# Altium footprint library rcl.PCBLIB: 487 footprints (part 24 of 31)
Each footprint in its own frame and in the unit in brackets; x right, y up, seen from the top. Pads: shape width x height; smd on the part's side, far side on the other; paste and mask are expansions set on the pad; w line width, h text height; cw(c..) or ccw(c..) is an arc to the next point about the centre after c.
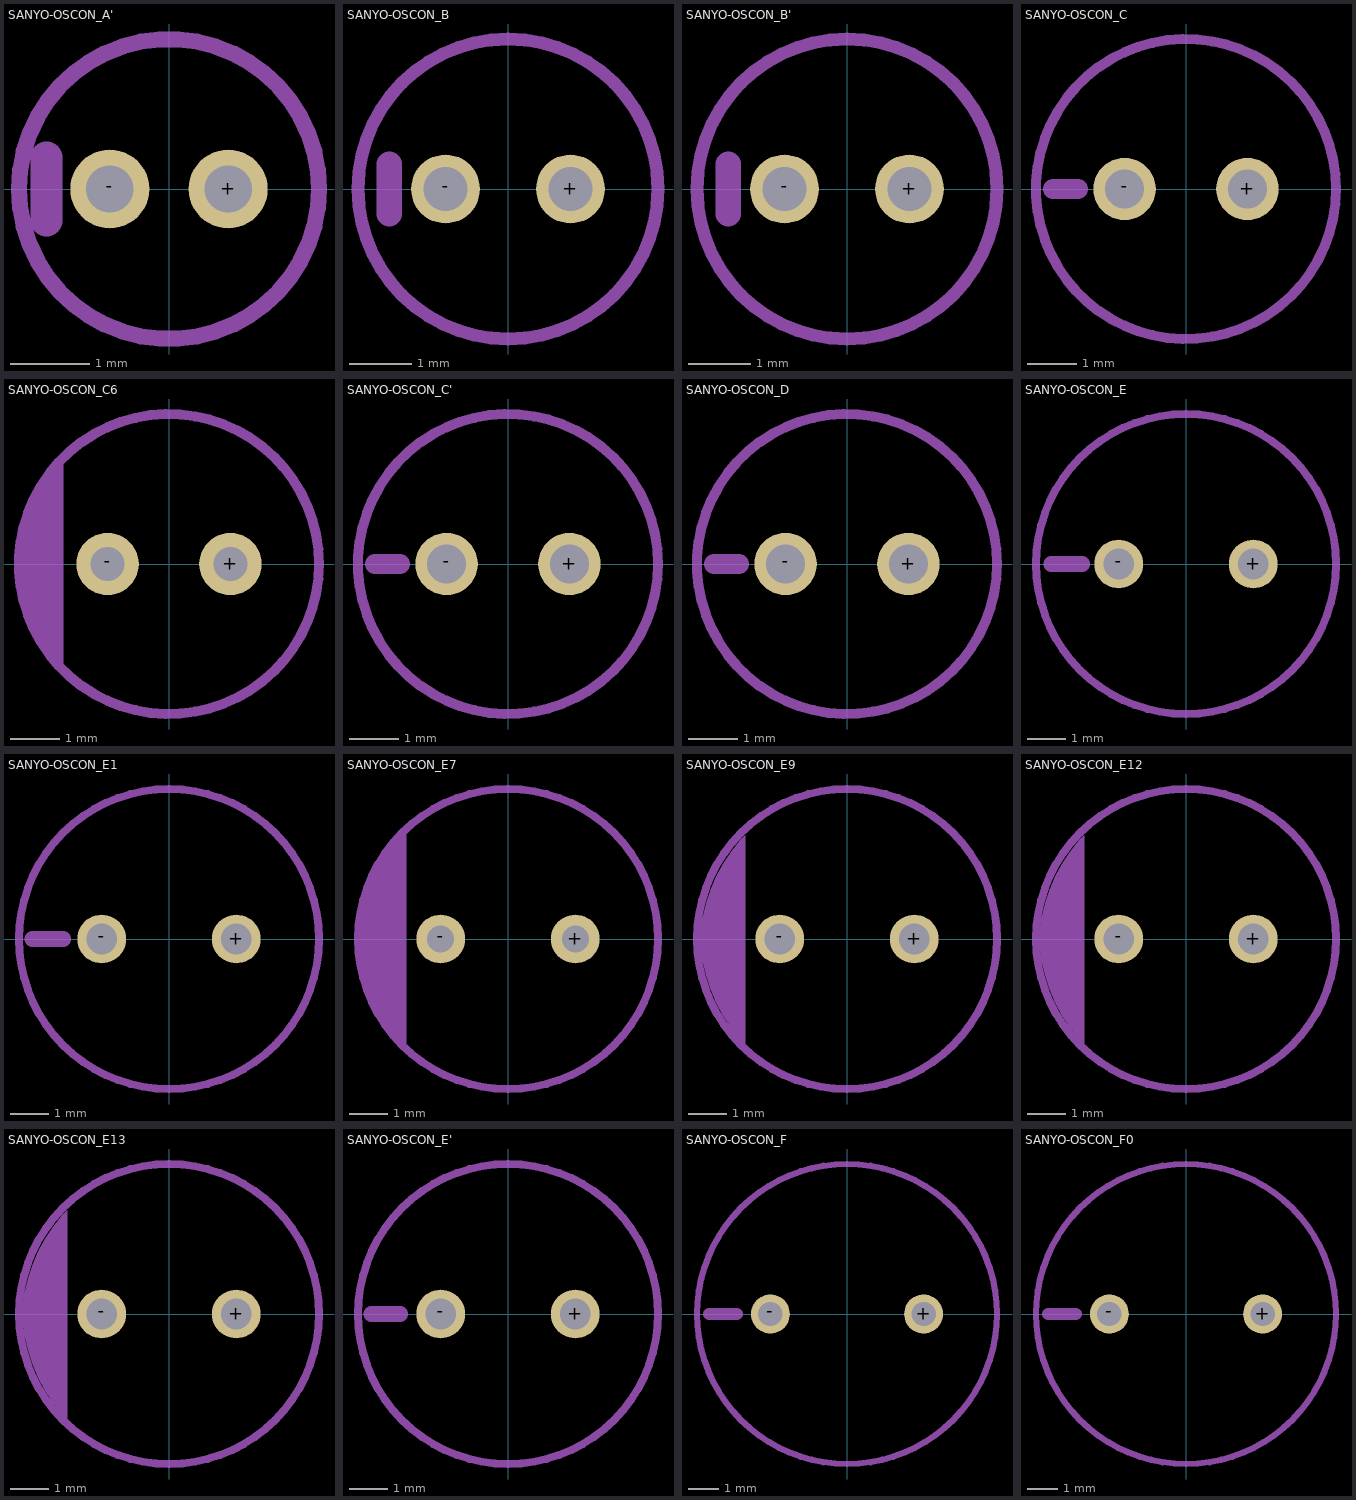
[diagram p23: the footprints below, top view; thin cyan lines are the x and y axes]

## SANYO-OSCON_A' [mm]
pads (2):
  round 1 hole 0.6: +(0.75,0) -(-0.75,0)
tDocu:
  lines w0.406: -1.55,-0.4 -1.55,0.4
tPlace:
  circle w0.203: c0,0 r1.9

## SANYO-OSCON_B [mm]
pads (2):
  round 1.1 hole 0.7: +(1,0) -(-1,0)
tPlace:
  circle w0.203: c0,0 r2.4
  lines w0.406: -1.9,-0.4 -1.9,0.4

## SANYO-OSCON_B' [mm]
pads (2):
  round 1.1 hole 0.7: +(1,0) -(-1,0)
tPlace:
  circle w0.203: c0,0 r2.4
  lines w0.406: -1.9,-0.4 -1.9,0.4

## SANYO-OSCON_C [mil]
pads (2):
  round 50 hole 31.5: +(49.21,0) -(-49.21,0)
tPlace:
  circle w8: c0,0 r120.08
  lines w16: -106.3,0 -86.61,0

## SANYO-OSCON_C6 [mil]
pads (2):
  round 50 hole 27.56: +(49.21,0) -(-49.21,0)
tPlace:
  circle w8: c0,0 r120.08
  region: -84.65,82.68 -84.65,-82.68 -88.59,-78.25 -95.65,-68.71 -101.83,-58.58 -107.08,-47.93 -111.36,-36.86 -114.63,-25.46 -116.86,-13.8 -118.05,-1.99 -118.11,3.94 -117.69,14.9 -112.91,36.3 -104.33,56.48 -92.25,74.77 -84.65,82.68

## SANYO-OSCON_C' [mil]
pads (2):
  round 50 hole 31.5: +(49.21,0) -(-49.21,0)
tPlace:
  circle w8: c0,0 r120.09
  lines w16: -106.3,0 -86.61,0

## SANYO-OSCON_D [mil]
pads (2):
  round 50 hole 31.5: +(49.21,0) -(-49.21,0)
tPlace:
  circle w8: c0,0 r120.08
  lines w16: -106.3,0 -86.61,0

## SANYO-OSCON_E [mil]
pads (2):
  round 50 hole 31.5: +(68.9,0) -(-68.9,0)
tPlace:
  circle w8: c0,0 r153.56
  lines w16: -137.8,0 -106.3,0

## SANYO-OSCON_E1 [mil]
pads (2):
  round 50 hole 31.5: +(68.9,0) -(-68.9,0)
tPlace:
  circle w8: c0,0 r153.54
  lines w16: -139.76,0 -108.27,0

## SANYO-OSCON_E7 [mil]
pads (2):
  round 50 hole 27.56: +(68.9,0) -(-68.9,0)
tPlace:
  circle w8: c0,0 r153.54
  region: -104.33,110.24 -104.33,-110.24 -109.63,-104.7 -119.19,-92.72 -127.64,-79.93 -134.91,-66.44 -140.95,-52.35 -145.7,-37.78 -149.13,-22.84 -151.21,-7.66 -151.57,0 -151.25,7.66 -149.23,22.87 -145.84,37.83 -141.11,52.41 -135.06,66.51 -127.77,80 -119.28,92.78 -109.66,104.73 -104.33,110.24

## SANYO-OSCON_E9 [mil]
pads (2):
  round 50 hole 31.5: +(68.9,0) -(-68.9,0)
tPlace:
  circle w8: c0,0 r153.54
  region: -104.33,106.3 -104.33,-108.27 -109.46,-102.8 -118.72,-91 -126.87,-78.42 -133.88,-65.15 -139.66,-51.31 -144.19,-37.02 -147.42,-22.37 -149.33,-7.49 -149.61,0 -149.32,7.38 -147.41,22.03 -144.17,36.45 -139.64,50.52 -133.85,64.11 -126.85,77.12 -118.69,89.45 -109.45,100.98 -104.33,106.3

## SANYO-OSCON_E12 [mil]
pads (2):
  round 50 hole 31.5: +(68.9,0) -(-68.9,0)
tPlace:
  circle w8: c0,0 r153.54
  region: -104.33,106.3 -104.33,-108.27 -109.46,-102.8 -118.72,-91 -126.87,-78.42 -133.88,-65.15 -139.66,-51.31 -144.19,-37.02 -147.42,-22.37 -149.33,-7.49 -149.61,0 -149.32,7.38 -147.41,22.03 -144.17,36.45 -139.64,50.52 -133.85,64.11 -126.85,77.12 -118.69,89.45 -109.45,100.98 -104.33,106.3

## SANYO-OSCON_E13 [mil]
pads (2):
  round 50 hole 31.5: +(68.9,0) -(-68.9,0)
tPlace:
  circle w8: c0,0 r153.54
  region: -104.33,106.3 -104.33,-108.27 -109.46,-102.8 -118.72,-91 -126.87,-78.42 -133.88,-65.15 -139.66,-51.31 -144.19,-37.02 -147.42,-22.37 -149.33,-7.49 -149.61,0 -149.32,7.38 -147.41,22.03 -144.17,36.45 -139.64,50.52 -133.85,64.11 -126.85,77.12 -118.69,89.45 -109.45,100.98 -104.33,106.3

## SANYO-OSCON_E' [mil]
pads (2):
  round 50 hole 31.5: +(68.9,0) -(-68.9,0)
tPlace:
  circle w8: c0,0 r153.54
  lines w16: -139.76,0 -110.24,0

## SANYO-OSCON_F [mil]
pads (2):
  round 50 hole 31.5: +(98.43,0) -(-98.43,0)
tPlace:
  circle w8: c0,0 r192.91
  lines w16: -177.17,0 -141.73,0

## SANYO-OSCON_F0 [mil]
pads (2):
  round 50 hole 31.5: +(98.43,0) -(-98.43,0)
tPlace:
  circle w8: c0,0 r192.91
  lines w16: -177.17,0 -141.73,0